# Altium footprint library Header_2x18.PcbLib: 1 footprints
Each footprint in its own frame and in the unit in brackets; x right, y up, seen from the top. Pads: shape width x height; smd on the part's side, far side on the other; paste and mask are expansions set on the pad; w line width, h text height; cw(c..) or ccw(c..) is an arc to the next point about the centre after c.
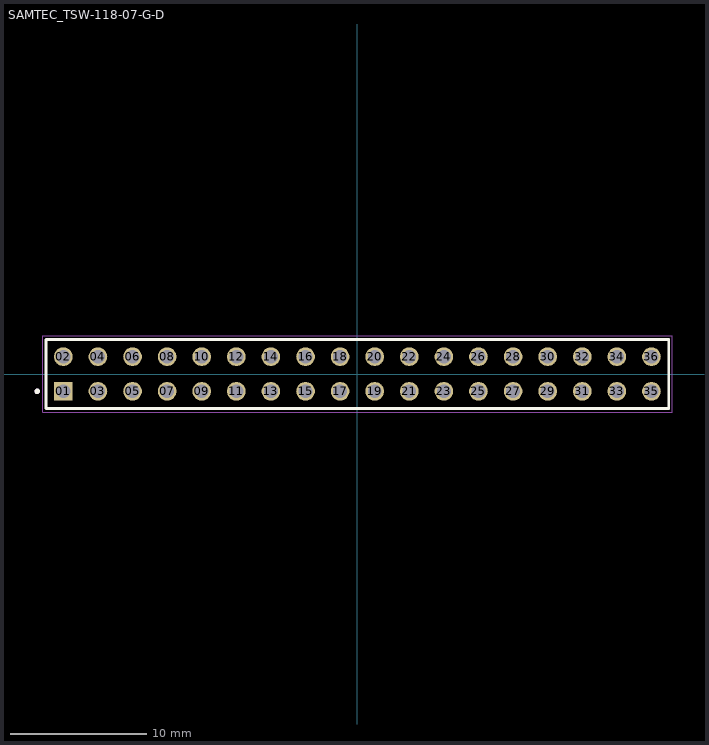
[diagram p0: the footprint, top view; thin cyan lines are the x and y axes]

## SAMTEC_TSW-118-07-G-D [mm]
pads (36):
  rect 1.37x1.37 hole 1.02: 01(-21.59,-1.27)
  round 1.37 hole 1.02: 02(-21.59,1.27) 03(-19.05,-1.27) 04(-19.05,1.27) 05(-16.51,-1.27) 06(-16.51,1.27) 07(-13.97,-1.27) 08(-13.97,1.27) 09(-11.43,-1.27) 10(-11.43,1.27) 11(-8.89,-1.27) 12(-8.89,1.27) 13(-6.35,-1.27) 14(-6.35,1.27) 15(-3.81,-1.27) 16(-3.81,1.27) 17(-1.27,-1.27) 18(-1.27,1.27) 19(1.27,-1.27) 20(1.27,1.27) 21(3.81,-1.27) 22(3.81,1.27) 23(6.35,-1.27) 24(6.35,1.27) 25(8.89,-1.27) 26(8.89,1.27) 27(11.43,-1.27) 28(11.43,1.27) 29(13.97,-1.27) 30(13.97,1.27) 31(16.51,-1.27) 32(16.51,1.27) 33(19.05,-1.27) 34(19.05,1.27) 35(21.59,-1.27) 36(21.59,1.27)
Top Overlay:
  circle w0.2: c-23.51,-1.27 r0.1
  lines w0.2: -22.86,-2.54 -22.86,2.54 22.86,2.54 22.86,-2.54 -22.86,-2.54
Mechanical 13:
  circle w0.2: c-23.51,-1.27 r0.1
  lines w0.1: -22.86,-2.54 -22.86,2.54 ; -22.86,-2.54 22.86,-2.54 ; -22.86,-2.54 -22.86,2.54 ; -22.86,2.54 22.86,2.54 ; -22.86,2.54 22.86,2.54 ; 22.86,-2.54 22.86,2.54 ; 22.86,-2.54 22.86,2.54
Mechanical 15:
  lines w0.05: -23.11,-2.79 -23.11,2.79 23.11,2.79 23.11,-2.79 -23.11,-2.79
3D body "TSW-118-07-G-D.stp": height 8.38, standoff -2.54, extent -22.987,-2.54 22.733,2.54